# Altium footprint library COMPONENTES.PcbLib: 191 footprints (part 12 of 12)
Each footprint in its own frame and in the unit in brackets; x right, y up, seen from the top. Pads: shape width x height; smd on the part's side, far side on the other; paste and mask are expansions set on the pad; w line width, h text height; cw(c..) or ccw(c..) is an arc to the next point about the centre after c.
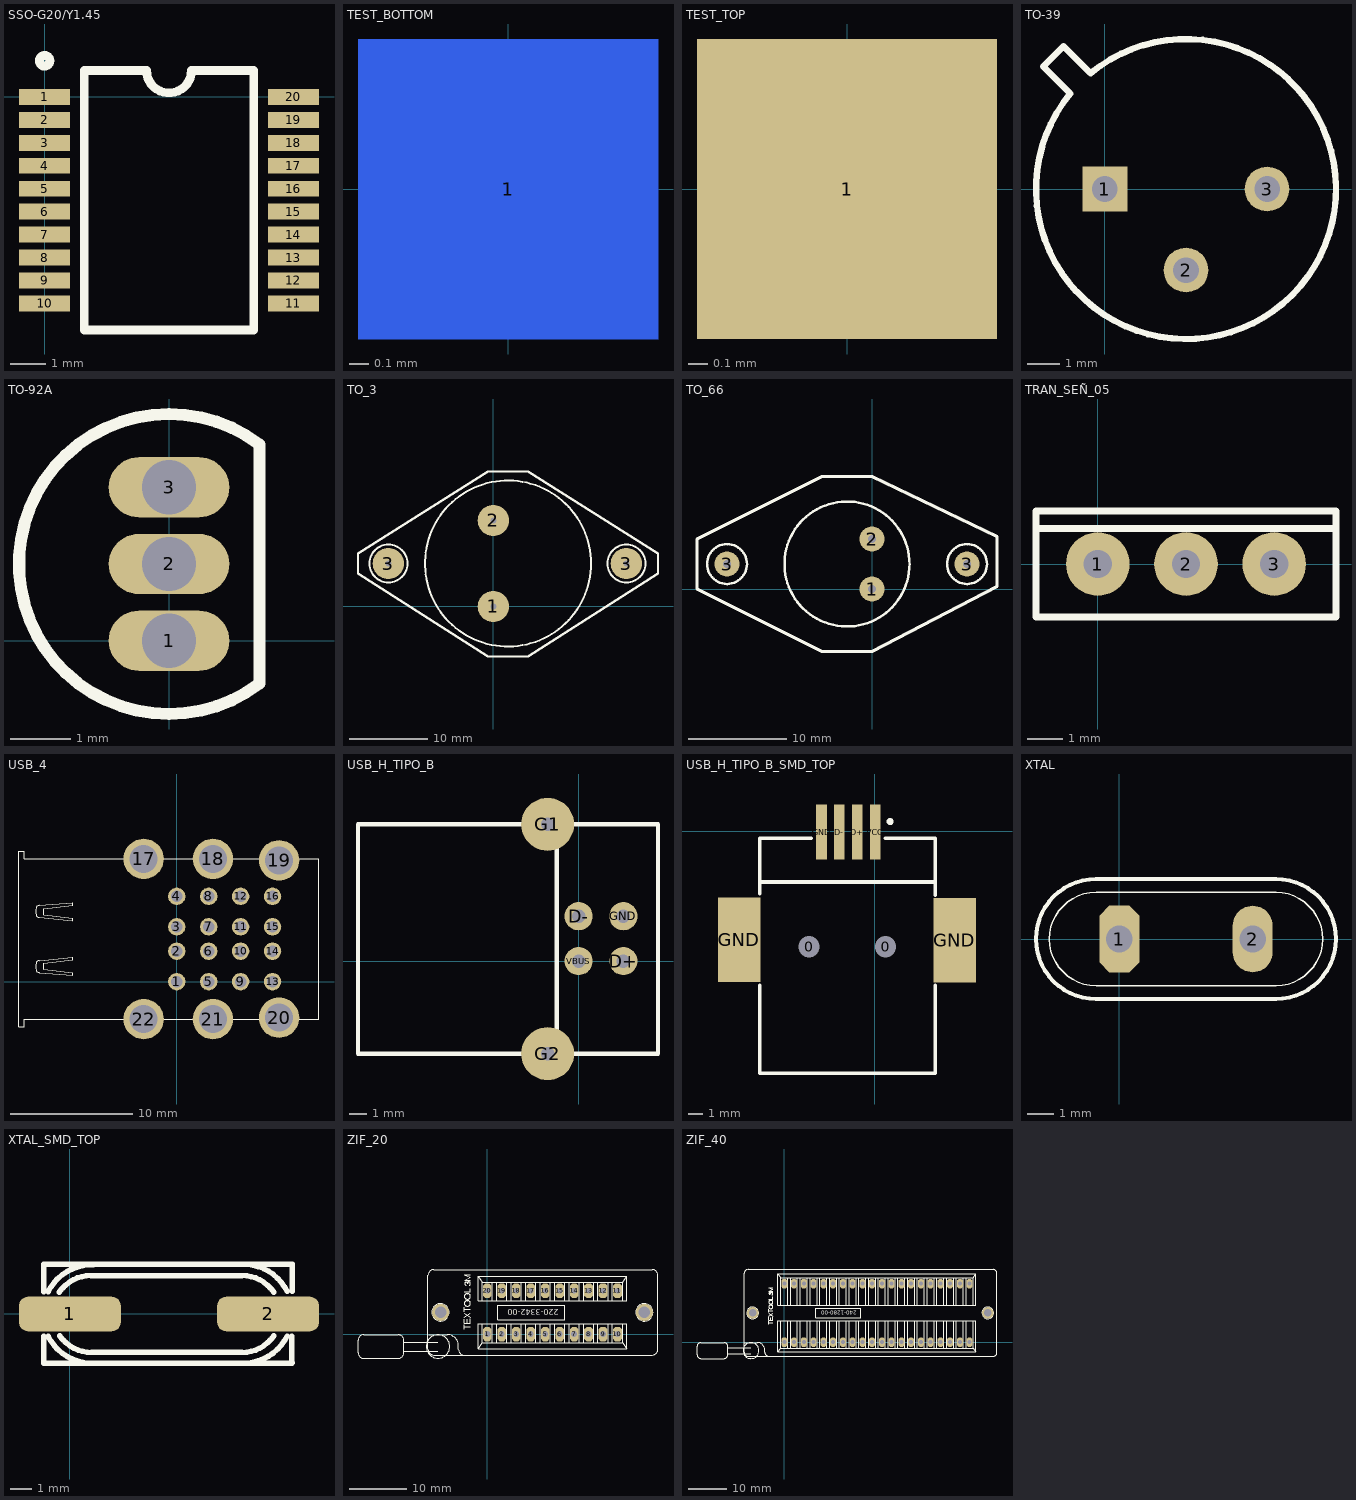
[diagram p11: the footprints below, top view; thin cyan lines are the x and y axes]

## SSO-G20/Y1.45 [mm]
height 2.65
pads (20):
  rect 1.45x0.45 smd: 1(0,0) 2(0,-0.65) 3(0,-1.3) 4(0,-1.95) 5(0,-2.6) 6(0,-3.25) 7(0,-3.9) 8(0,-4.55) 9(0,-5.2) 10(0,-5.85) 11(7.05,-5.85) 12(7.05,-5.2) 13(7.05,-4.55) 14(7.05,-3.9) 15(7.05,-3.25) 16(7.05,-2.6) 17(7.05,-1.95) 18(7.05,-1.3) 19(7.05,-0.65) 20(7.05,0)
Top Overlay:
  circle w0.25: c0,1.025 r0.15
  lines w0.25: 1.125,-6.6 5.925,-6.6 5.925,0.75 4.16,0.75 cw(c3.525,0.75) 2.89,0.75 1.125,0.75 1.125,-6.6

## TEST_BOTTOM [mil]
height 104.33
pads (1):
  rect 60x60 smd far side: 1(0,0)

## TEST_TOP [mil]
height 104.33
pads (1):
  rect 60x60 smd: 1(0,0)

## TO-39 [mm] "Can; 3 Leads; Pin Circle Dia. 5.08 mm; Lead Dia. 0.48 mm (max)"
height 4.55
pads (3):
  rect 1.4x1.4 hole 0.8: 1(0,0)
  round 1.4 hole 0.8: 2(2.54,-2.54) 3(5.08,0)
Top Overlay:
  lines w0.2: -1.935,3.838 -1.086,2.99 ccw(c2.54,0) -0.45,3.626 -1.298,4.475 -1.935,3.838

## TO-92A [mm] "TO, Flat Index; 3 In-Line, Axial Leads; Body Dia. 4.5mm; Leads 0.51 x 0.48 mm (max)"
height 6.86
pads (3):
  oval 2x1 hole 0.9: 1(0,0) 2(0,1.27) 3(0,2.54)
Top Overlay:
  lines w0.2: 1.5,-0.71 cw(c0,1.27) 1.5,3.25 1.5,-0.71

## TO_3 [mm]
height 2.65
pads (4):
  round 4 hole 0.8: 1(0,0) 2(0,10.922) 3(-13.335,5.461) 3(16.891,5.461)
Top Overlay:
  circle w0.254: c1.854,5.461 r10.541
  circle w0.254: c16.891,5.461 r2.413
  circle w0.254: c-13.335,5.461 r2.413
  lines w0.305: -17.196,4.191 -17.196,6.731 -0.686,17.145 4.394,17.145 20.904,6.731 20.904,4.191 4.394,-6.35 -0.686,-6.35 -17.196,4.191

## TO_66 [mm]
height 2.65
pads (4):
  round 2.54 hole 0.8: 1(0,0) 2(0,5.08) 3(-14.732,2.54) 3(9.652,2.54)
Top Overlay:
  circle w0.254: c-14.732,2.54 r2.032
  circle w0.254: c9.652,2.54 r2.032
  circle w0.254: c-2.54,2.54 r6.35
  lines w0.305: -17.78,0 -17.78,5.08 -5.08,11.43 0,11.43 12.7,5.334 12.7,0.254 0,-6.35 -5.08,-6.35 -17.78,0

## TRAN_SEÑ_05 [mm]
height 2.65
pads (3):
  round 1.8 hole 0.8: 1(0,0) 2(2.5,0) 3(5,0)
Top Overlay:
  lines w0.2: -1.75,1 6.75,1 ; -1.75,1 -1.75,-1.5 6.75,-1.5 6.75,1 ; -1.75,1 -1.75,1.5 6.75,1.5 6.75,1

## USB_4 [mm]
height 1.016
pads (22):
  round 1.428 hole 0.92: 1(0,0) 2(0,2.5) 3(0,4.5) 4(0,7) 5(2.62,0) 6(2.62,2.5) 7(2.62,4.5) 8(2.62,7) 9(5.24,0) 10(5.24,2.5) 11(5.24,4.5) 12(5.24,7) 13(7.86,0) 14(7.86,2.5) 15(7.86,4.5) 16(7.86,7)
  round 3.316 hole 2.3: 17(-2.71,10.07) 18(2.97,10.07) 19(8.39,9.95) 20(8.39,-2.95) 21(2.97,-3.07) 22(-2.71,-3.07)
Top Overlay:
  lines w0.102: -12.935,-3.7 -12.935,10.7 -12.485,10.7 -12.485,10.1 -4.635,10.1 -0.735,10.1 1.14,10.1 4.79,10.1 6.515,10.1 10.415,10.1 11.665,10.1 11.665,-3.1 10.44,-3.1 6.365,-3.1 4.79,-3.1 1.04,-3.1 -0.86,-3.1 -4.535,-3.1 -12.485,-3.1 -12.485,-3.7 -12.935,-3.7 ; -11.538,0.956 cw(c-10.607,1.242) -11.538,1.528 cw(c-11.256,1.441) -11.278,1.735 -8.527,1.995 -8.527,1.787 -10.915,1.528 -10.915,1.008 -8.527,0.749 -8.527,0.541 -11.278,0.749 cw(c-11.256,1.043) -11.538,0.956 ; -11.538,5.473 ccw(c-11.256,5.559) -11.278,5.265 -8.527,5.006 -8.527,5.213 -10.915,5.473 -10.915,5.992 -8.527,6.251 -8.527,6.459 -11.278,6.251 ccw(c-11.256,5.958) -11.538,6.044 ccw(c-10.607,5.758) -11.538,5.473

## USB_H_TIPO_B [mm]
pads (6):
  round 1.6 hole 0.762: D+(2.54,0) D-(0,2.54) GND(2.54,2.54) VBUS(0,0)
  round 3 hole 0.762: G1(-1.75,7.75) G2(-1.75,-5.25)
Top Overlay:
  lines w0.254: -1.25,-5.25 -1.25,7.75 ; -12.5,-5.25 -12.5,7.75 4.5,7.75 4.5,-5.25 -12.5,-5.25

## USB_H_TIPO_B_SMD_TOP [mm]
pads (8):
  round 1.3 hole 1.5: 0(-4.65,-8.2) 0(0.775,-8.2)
  rect 0.76x3.9 smd: D+(-1.235,-0.05) D-(-2.505,-0.05) GND(-3.775,-0.05) VCC(0.035,-0.05)
  rect 3x6 smd: GND(-9.625,-7.7) GND(5.7,-7.725)
Top Overlay:
  circle w0.25: c1.1,0.7 r0.125
  lines w0.254: -8.175,-10.95 -8.175,-17.2 ; -8.175,-4.425 -8.175,-0.5 -4.5,-0.5 ; -8.175,-3.6 4.3,-3.6 ; 0.775,-0.5 4.325,-0.5 4.325,-4.525 ; 4.325,-10.95 4.325,-17.2 -8.175,-17.2 ; -8.175,-17.2 -8.175,-17.2

## XTAL [mil]
height 354.33
pads (2):
  oct 60x100 hole 40: 1(0,0)
  oval 60x100 hole 40: 2(200,0)
Top Overlay:
  lines w2: -35,-70 cw(c-35,0) -35,70 235,70 cw(c235,0) 235,-70 -35,-70
  lines w6: -35,-90 cw(c-35,0) -35,90 235,90 cw(c235,0) 235,-90 -35,-90

## XTAL_SMD_TOP [mm]
pads (2):
  rrect50% 4.7x1.6 smd: 1(0,0) 2(9.155,0)
Top Overlay:
  lines w0.152: 1.086,-2.286 7.944,-2.286 ; 1.086,2.286 7.944,2.286
  lines w0.254: -1.2,-1.025 -1.2,-2.275 ; -1.2,1.025 -1.2,2.3 ; -1.01,-1.018 ccw(c1.025,0) 1.075,-2.275 ; -1.01,1.018 cw(c1.025,0) 1.075,2.275 ; -0.485,1.015 cw(c0.975,0) 0.981,1.778 7.944,1.778 cw(c7.95,0) 9.41,1.015 ; -0.46,-1.015 ccw(c1,0) 1.006,-1.778 7.944,-1.778 ; 7.95,-2.275 ccw(c8,0) 10.035,-1.018 ; 7.95,2.3 cw(c8,0.025) 10.035,1.043 ; 9.41,-1.015 cw(c7.95,0) 7.944,-1.778 ; 10.25,-1.025 10.25,-2.275 ; 10.275,-2.25 10.25,-2.275 ; 10.275,1.05 10.275,2.3 ; -1.2,-2.275 10.25,-2.275 ; -1.2,-2.275 -1.2,-2.275 ; -1.2,2.3 -1.2,2.3 ; -1.2,2.3 10.275,2.3 ; 7.944,-1.778 7.944,-1.778 ; 10.275,2.3 10.275,2.3

## ZIF_20 [mil]
height 472.44
pads (22):
  oct 60x100 hole 40: 1(0,0) 2(100,0) 3(200,0) 4(300,0) 5(400,0) 6(500,0) 7(600,0) 8(700,0) 9(800,0) 10(900,0) 11(900,300) 12(800,300) 13(700,300) 14(600,300) 15(500,300) 16(400,300) 17(300,300) 18(200,300) 19(100,300) 20(0,300)
  round 118.11 hole 78.74 unplated: ""(-324.02,150) ""(1086.22,150)
Top Overlay:
  drawing of 157 lines, arcs and shapes, not listed
  text "220-3342-00" at 495,170 h40

## ZIF_40 [mil]
height 472.44
pads (42):
  oct 60x100 hole 40: 1(0,0) 2(100,0) 3(200,0) 4(300,0) 5(400,0) 6(500,0) 7(600,0) 8(700,0) 9(800,0) 10(900,0) 11(1000,0) 12(1100,0) 13(1200,0) 14(1300,0) 15(1400,0) 16(1500,0) 17(1600,0) 18(1700,0) 19(1800,0) 20(1900,0) 21(1900,600) 22(1800,600) 23(1700,600) 24(1600,600) 25(1500,600) 26(1400,600) 27(1300,600) 28(1200,600) 29(1100,600) 30(1000,600) 31(900,600) 32(800,600) 33(700,600) 34(600,600) 35(500,600) 36(400,600) 37(300,600) 38(200,600) 39(100,600) 40(0,600)
  round 118.11 hole 78.74 unplated: ""(-324.02,300) ""(2086.22,300)
Top Overlay:
  drawing of 197 lines, arcs and shapes, not listed
  text "240-1280-00" at 745,320 h40